# Altium schematic symbol library CONN_TERM_BLK_2P_2.54MM_TH.SchLib: 1 symbol
Pins are listed as number, name and electrical type; pins without a type are passive.

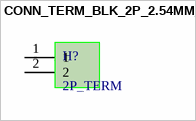
[diagram p0: symbol CONN_TERM_BLK_2P_2.54MM_TH]

## CONN_TERM_BLK_2P_2.54MM_TH
designator H?, comment 2P_TERM
2 Position Wire to Board Terminal Block Horizontal with Board 0.100" (2.54mm) Through Hole; Supplier 1: Mouser; Supplier Part Number 1: 651-1725656
footprint CONN_TERM_BLK_2P_2.54MM_TH
pins: 1, 2